# Altium schematic symbol library antenna.SchLib: 5 symbols
Pins are listed as number, name and electrical type; pins without a type are passive.

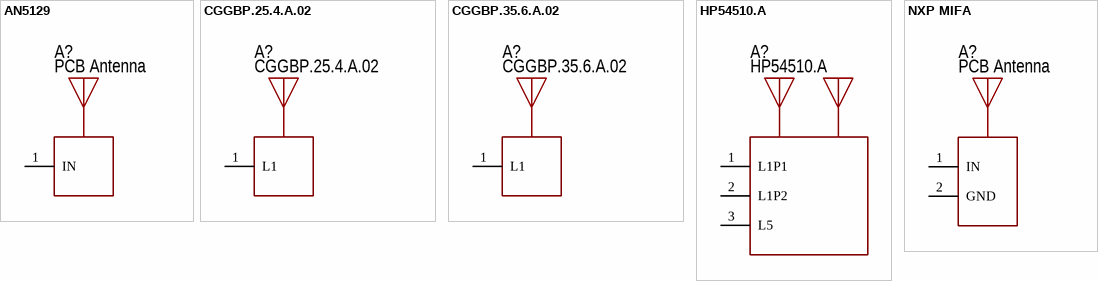
[diagram p0: symbols AN5129 to NXP MIFA]

## AN5129
designator A?  PartNumber: PCB Antenna
Low cost PCB antenna for 2.4 GHz radio: meander design for STM32WB Series; Manufacturer: ST; ValueManufacturerPartNumber: antenna, 2400-2500 MHz; AntennaImpedance: 50 Ohm; Frequency: 2400-2500 MHz; HelpURL: https://www.st.com/resource/en/application_note/an5129-low-cost-pcb-antenna-for-24ghz-radio-meander-design-for-stm32wb-series-stmicroelectronics.pdf; ComponentType: antenna
footprint ANT: AN5129_R (2.4GHz antenna)
footprint ANT: AN5129_L (2.4GHz antenna)
pins: 1 IN

## CGGBP.25.4.A.02
designator A?  PartNumber: CGGBP.25.4.A.02
L1 GNSS antenna. 25*25*4mm Patch; Manufacturer: Taoglas; ValueManufacturerPartNumber: antenna, L1; AntennaImpedance: 50 Ohm; HelpURL: https://cdn.taoglas.com/datasheets/CGGBP.25.4.A.02.pdf; ComponentType: antenna; Frequency: L1
footprint ANT: CGGBP.25.4.A.02 (Taoglas L1 GNSS antenna)
pins: 1 L1

## CGGBP.35.6.A.02
designator A?  PartNumber: CGGBP.35.6.A.02
L1 GNSS antenna. 35*35*6.5mm Patch; Manufacturer: Taoglas; ValueManufacturerPartNumber: antenna, L1; AntennaImpedance: 50 Ohm; HelpURL: https://cdn.taoglas.com/datasheets/CGGBP.35.6.A.02.pdf; ComponentType: antenna; Frequency: L1
footprint ANT: CGGBP.35.6.A.02 (Taoglas L1 GNSS antenna)
pins: 1 L1

## HP54510.A
designator A?  PartNumber: HP54510.A
L1/5 GNSS antenna. Band Dual Feed Stacked 45*45*10mm Patch; Manufacturer: Taoglas; ValueManufacturerPartNumber: antenna, L1/L5; AntennaImpedance: 50 Ohm; Frequency: L1/L5; HelpURL: https://www.mouser.ee/datasheet/2/398/HP54510_A-3326833.pdf; ComponentType: antenna
footprint ANT: HP54510.A (Taoglas L1/5 GNSS antenna)
pins: 1 L1P1, 2 L1P2, 3 L5

## NXP MIFA
designator A?  PartNumber: PCB Antenna
2.4 GHz a PCB antenna for low-cost, low-profile, and high-efficiency applications; Manufacturer: NXP; ValueManufacturerPartNumber: antenna, 2400-2500 MHz; AntennaImpedance: 50 Ohm; Frequency: 2400-2500 MHz; HelpURL: https://www.nxp.com/docs/en/nxp/application-notes/AN11994.pdf; ComponentType: antenna
footprint ANT: NXP MIFA (2.4GHz antenna)
pins: 1 IN, 2 GND (power)